# Altium integrated library IOT Arduino Board.IntLib: 54 symbols
Pins are listed as number, name and electrical type; pins without a type are passive.

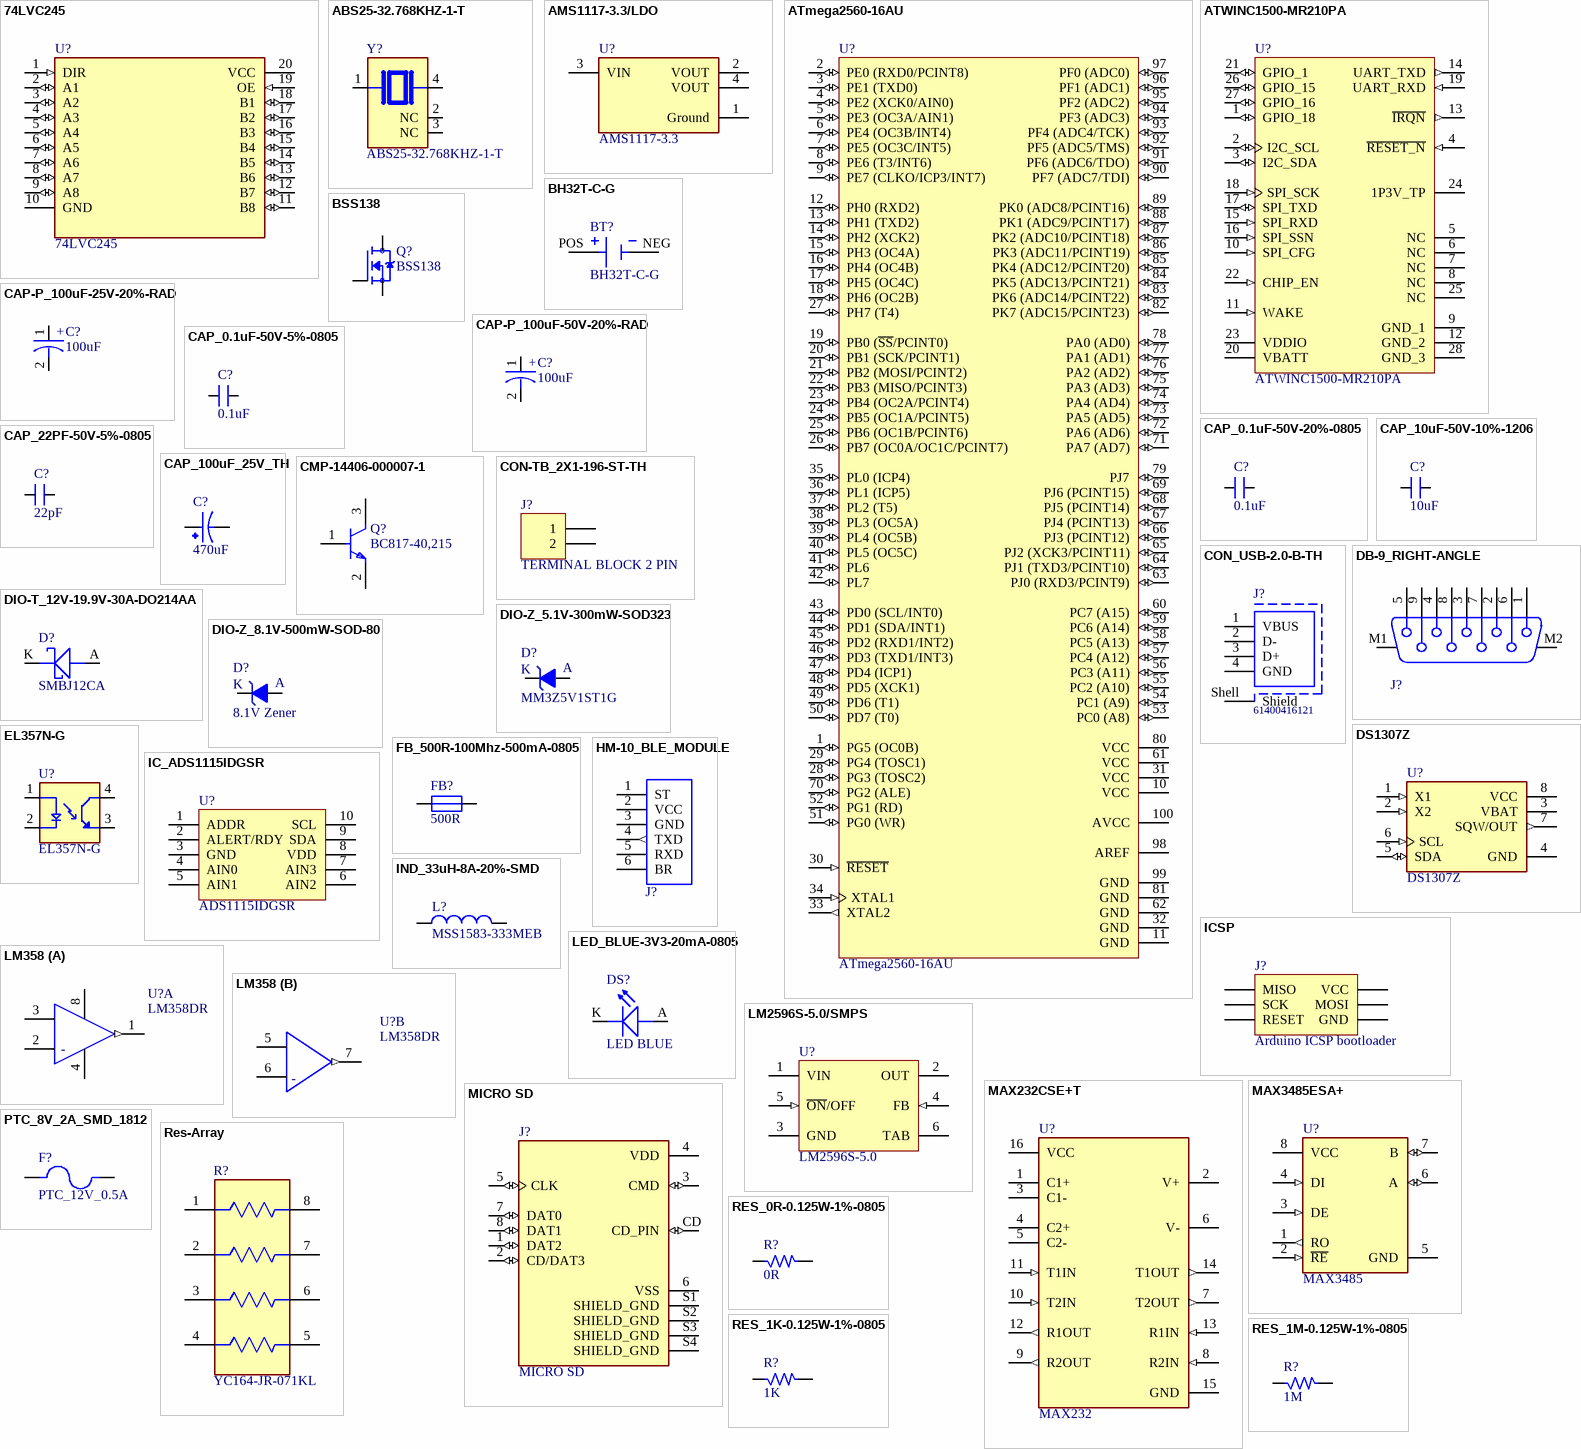
[diagram p0: symbols 74LVC245 to RES_1M-0.125W-1%-0805]

## 74LVC245
designator U?
Transceiver, Non-Inverting 1 Element 8 Bit per Element 3-State Output 20-TSSOP; MF: ON Semiconductor; Package: TSSOP-20 ON Semiconductor; Check_prices: https://www.snapeda.com/parts/74LVC245/Onsemi/view-part/?ref=eda; Value: *; Price: None; MP: 74LVC245; Availability: In Stock; SnapEDA_Link: https://www.snapeda.com/parts/74LVC245/Onsemi/view-part/?ref=snap
footprint SOIC-20-W
pins: 1 DIR (in), 2 A1 (io), 3 A2 (io), 4 A3 (io), 5 A4 (io), 6 A5 (io), 7 A6 (io), 8 A7 (io), 9 A8 (io), 10 GND (power), 11 B8 (io), 12 B7 (io), 13 B6 (io), 14 B5 (io), 15 B4 (io), 16 B3 (io), 17 B2 (io), 18 B1 (io), 19 OE (in), 20 VCC (power)

## ABS25-32.768KHZ-1-T
designator Y?
32.768 kHz Â±10ppm Crystal 12.5pF 50 kOhms 4-SOJ, 5.50mm pitch; MF: Abracon LLC; Price: None; Purchase-URL: https://pricing.snapeda.com/search/part/ABS25-32.768KHZ-1-T/?ref=eda; Package: 4-4 Abracon; Check_prices: https://www.snapeda.com/parts/ABS25-32.768KHZ-1-T/Abracon+LLC/view-part/?ref=eda; Value: *; MP: ABS25-32.768KHZ-1-T; Availability: In Stock; SnapEDA_Link: https://www.snapeda.com/parts/ABS25-32.768KHZ-1-T/Abracon+LLC/view-part/?ref=snap
footprint XTAL_ABS25-32.768KHZ-1-T
pins: 1, 2 NC, 3 NC, 4 2

## AMS1117-3.3/LDO
designator U?, comment AMS1117-3.3
LDO Voltage Regulators 1A, 3.3V; Manufacturer: Advanced Monolithic Systems; Dropout Voltage: 1.1V; Output Type: Fixed; Nominal Supply Current: 5mA; Max Power Dissipation: 1.2W; Max Supply Voltage: 15V; Number Of Outputs: 1; Standoff Height: 0.64mm; Max Junction Temp: +125°C; Height: 1.8mm; Package: AMS1117; Device Class L2: Power Management ICs; ComponentLink2Description: Datasheet; ComponentLink2URL: http://www.advanced-monolithic.com/pdf/ds1117.pdf; Category: IC; RoHS: TRUE; Automotive: No; Device Class L1: Integrated Circuits (ICs); Output Current: 1A; Device Class L3: Voltage Regulators - Linear; Temperature: -40°C to +125°C; Output Voltage: 3.3V; Manufacturer Part Number: AMS1117-3.3; Temperature Range Low: -40°C; Octopart: https://octopart.com/ams1117-3.3-advanced+monolithic+systems-25899300; Lead Free: Yes; Ipc Land Pattern Name: SOT229P700X180-4; Temperature Range High: +125°C; ClassName: PWR
footprint FP-AMS1117-IPC_A
footprint FP-AMS1117-IPC_B
footprint FP-AMS1117-IPC_C
pins: 1 Ground (power), 2 VOUT, 3 VIN (power), 4 VOUT

## ATmega2560-16AU
designator U?
8-bit AVR Microcontroller, 4.5-5.5V, 16MHz, 256KB Flash, 4KB EEPROM, 8KB SRAM, 86 GPIO pins, 100-pin TQFP, Industrial Grade (-40°C to 85°C), Pb-Free; PackageDescription: 100-Pin Thin Profile Plastic Quad Flat Pack (TQFP), 14 x 14 x 1.0 mm Body, 0.5 mm Pitch; ComponentLink1Description: Manufacturer URL; ComponentLink3URL: http://www.atmel.com/dyn/resources/prod_documents/2549S.pdf; RevisionNote: DatasheetVersion & PackageVersion updated. URLs added.; DatasheetVersion: revN, May-2011; ComponentLink2Description: ATmega640/1280/1281/2560/2561 Datasheet; PackageReference: 100A; PackageVersion: revD, Oct-2010; Code_JEDEC: MS-026-AED; ComponentLink1URL: http://www.atmel.com/; ComponentLink2URL: http://www.atmel.com/dyn/resources/prod_documents/doc2549.pdf; ComponentLink3Description: ATmega640/1280/1281/2560/2561 Summary
footprint 100A_M (Thin QFP, 100-Leads, Body 14x14mm, Pitch 0.5mm, IPC Low Density)
footprint 100A_N (Thin QFP, 100-Leads, Body 14x14mm, Pitch 0.5mm, IPC Medium Density)
footprint 100A_L (Thin QFP, 100-Leads, Body 14x14mm, Pitch 0.5mm, IPC High Density)
pins: 1 PG5 (OC0B) (io), 2 PE0 (RXD0/PCINT8) (io), 3 PE1 (TXD0) (io), 4 PE2 (XCK0/AIN0) (io), 5 PE3 (OC3A/AIN1) (io), 6 PE4 (OC3B/INT4) (io), 7 PE5 (OC3C/INT5) (io), 8 PE6 (T3/INT6) (io), 9 PE7 (CLKO/ICP3/INT7) (io), 10 VCC (power), 11 GND (power), 12 PH0 (RXD2) (io), 13 PH1 (TXD2) (io), 14 PH2 (XCK2) (io), 15 PH3 (OC4A) (io), 16 PH4 (OC4B) (io), 17 PH5 (OC4C) (io), 18 PH6 (OC2B) (io), 19 PB0 (~{SS}/PCINT0) (io), 20 PB1 (SCK/PCINT1) (io), 21 PB2 (MOSI/PCINT2) (io), 22 PB3 (MISO/PCINT3) (io), 23 PB4 (OC2A/PCINT4) (io), 24 PB5 (OC1A/PCINT5) (io), 25 PB6 (OC1B/PCINT6) (io), 26 PB7 (OC0A/OC1C/PCINT7) (io), 27 PH7 (T4) (io), 28 PG3 (TOSC2) (io), 29 PG4 (TOSC1) (io), 30 ~{RESET} (in), 31 VCC (power), 32 GND (power), 33 XTAL2 (out), 34 XTAL1 (in), 35 PL0 (ICP4) (io), 36 PL1 (ICP5) (io), 37 PL2 (T5) (io), 38 PL3 (OC5A) (io), 39 PL4 (OC5B) (io), 40 PL5 (OC5C) (io), 41 PL6 (io), 42 PL7 (io), 43 PD0 (SCL/INT0) (io), 44 PD1 (SDA/INT1) (io), 45 PD2 (RXD1/INT2) (io), 46 PD3 (TXD1/INT3) (io), 47 PD4 (ICP1) (io), 48 PD5 (XCK1) (io), 49 PD6 (T1) (io), 50 PD7 (T0) (io), 51 PG0 (WR) (io), 52 PG1 (RD) (io), 53 PC0 (A8) (io), 54 PC1 (A9) (io), 55 PC2 (A10) (io), 56 PC3 (A11) (io), 57 PC4 (A12) (io), 58 PC5 (A13) (io), 59 PC6 (A14) (io), 60 PC7 (A15) (io), 61 VCC (power), 62 GND (power), 63 PJ0 (RXD3/PCINT9) (io), 64 PJ1 (TXD3/PCINT10) (io), 65 PJ2 (XCK3/PCINT11) (io), 66 PJ3 (PCINT12) (io), 67 PJ4 (PCINT13) (io), 68 PJ5 (PCINT14) (io), 69 PJ6 (PCINT15) (io), 70 PG2 (ALE) (io), 71 PA7 (AD7) (io), 72 PA6 (AD6) (io), 73 PA5 (AD5) (io), 74 PA4 (AD4) (io), 75 PA3 (AD3) (io), 76 PA2 (AD2) (io), 77 PA1 (AD1) (io), 78 PA0 (AD0) (io), 79 PJ7 (io), 80 VCC (power), 81 GND (power), 82 PK7 (ADC15/PCINT23) (io), 83 PK6 (ADC14/PCINT22) (io), 84 PK5 (ADC13/PCINT21) (io), 85 PK4 (ADC12/PCINT20) (io), 86 PK3 (ADC11/PCINT19) (io), 87 PK2 (ADC10/PCINT18) (io), 88 PK1 (ADC9/PCINT17) (io), 89 PK0 (ADC8/PCINT16) (io), 90 PF7 (ADC7/TDI) (io), 91 PF6 (ADC6/TDO) (io), 92 PF5 (ADC5/TMS) (io), 93 PF4 (ADC4/TCK) (io), 94 PF3 (ADC3) (io), 95 PF2 (ADC2) (io), 96 PF1 (ADC1) (io), 97 PF0 (ADC0) (io), 98 AREF (power), 99 GND (power), 100 AVCC (power)

## ATWINC1500-MR210PA
designator U?
IEEE 802.11 b/g/n IoT Module, 2.4 GHz, 2.7 to 3.6 V, -40 to 85 degC, 28-Pin Module, RoHS, Tray; VDDIO Min: 2.7 V; Frequency: 2400000000 Hz; VDDIO Max: 3.6 V; Number of Channels: 1; ComponentLink3Description: Package Specification; DatasheetVersion: Rev. 42376C; ComponentLink1URL: http://www.atmel.com/; PackageDescription: 28-Pin Module, Body 21.72 x 14.73 mm, Pitch 1.016 mm; ComponentLink2URL: http://www.atmel.com/images/atmel-42376-smartconnect-winc1500-mr210pa_datasheet.pdf; Temperature Min: -40 degC; Packing: Tray; PartNumber: ATWINC1500-MR210PA; PackageVersion: Rev. 42376C, 03/2015; ComponentLink2Description: Datasheet; ComponentLink1Description: Manufacturer URL; RoHS: TRUE; Temperature Max: 85 degC; Generic Part Number: ATWINC1500; Mounting Technology: Surface Mount; ComponentLink3URL: http://www.atmel.com/images/atmel-42376-smartconnect-winc1500-mr210pa_datasheet.pdf
footprint ATML-ATWINC1500-MR210PA-28_V (Module, 28-Leads, Body 21.72x14.73mm, Pitch 1.016mm)
pins: 1 GPIO_18 (io) "General purpose I/O.", 2 I2C_SCL (io) "I2C Slave Clock. Currently used only for Atmel debug. Not for customer use. Leave unconnected.", 3 I2C_SDA (io) "I2C Slave Data. Currently used only for Atmel debug. Not for customer use. Leave unconnected.", 4 ~{RESET_N} (in) "Active-Low Hard Reset. When asserted to a low level, the module will be placed in a reset state. When asserted to a high level, the module will run normally. Connect to a host output that defaults low at power up. If the (See Datasheet)", 5 NC "No connect", 6 NC "No connect", 7 NC "No connect", 8 NC "No connect", 9 GND_1 (power) "GND", 10 SPI_CFG (in) "Tie to VDDIO through a 1Mohm resistor to enable the SPI interface.", 11 WAKE (in) "Host Wake control. Can be used to wake up the module from Doze mode. Connect to a host GPIO.", 12 GND_2 (power) "GND", 13 ~{IRQN} (out) "ATWINC1500-MR210PA Device Interrupt output. Connect to host interrupt input pin.", 14 UART_TXD (out) "UART Transmit Output from ATWINC1500-MR210P.", 15 SPI_RXD (in) "SPI MOSI (Master Out Slave In) pin.", 16 SPI_SSN (in) "SPI Slave Select. Active low.", 17 SPI_TXD (io) "SPI MISO (Master In Slave Out) pin.", 18 SPI_SCK (in) "SPI Clock.", 19 UART_RXD (in) "UART Receive input to ATWINC1500-MR210P.", 20 VBATT (power) "Battery power supply.", 21 GPIO_1 (io) "General Purpose I/O.", 22 CHIP_EN (in) "Module enable. High level enables module, low level places mod-ule in Power Down mode. Connect to a host Output that defaults low at power up. If the host output is tri-stated, add a 1Mohm pull-down resistor to ensure a low (See Datasheet)", 23 VDDIO (power) "I/O Power Supply. Must match host I/O voltage.", 24 1P3V_TP "1.3V VDD Core Test Point. Leave unconnected.", 25 NC "No connect", 26 GPIO_15 (io) "General purpose I/O.", 27 GPIO_16 (io) "General purpose I/O.", 28 GND_3 (power) "GND"

## BH32T-C-G
designator BT?
BATTERY HOLDER COIN 20MM PC PIN; MF: MPD; Value: *; Availability: Unavailable; SnapEDA_Link: https://www.snapeda.com/parts/BH32T-C-G/Memory%20Protection%20Devices/view-part/4219673/?ref=snap; Package: None; MP: BH32T-C-G; Price: None
footprint BAT_BH32T-C-G
pins: NEG, POS

## BSS138
designator Q?
N-Channel 50V 220mA (Ta) 360mW (Ta) Surface Mount SOT-23-3; Price: None; MP: BSS138; Value: *; Availability: Unavailable; Package: None
footprint SOT95P240X111-3N
pins: 1 G, 2 S, 3 D

## CAP-P_100uF-25V-20%-RAD
designator C?, comment 100uF
100µF 25V Aluminum Electrolytic Capacitors Radial, Can - SMD 1000 Hrs @ 105°C; Manufacturer: Nichicon; Manufacturer Part Number: UWT1E101MCL1GS; Alternate Part Number-1: NA; Case/Package: Radial-SMD; Supplier-1: SP ROAD; Supplier Part Number-1: UWT1E101MCL1GS; ClassName: PWR
footprint ACAP_P236_D305_H303_RAD (Aluminium Capacitor)
pins: 1, 2
text: +

## CAP-P_100uF-50V-20%-RAD
designator C?, comment 100uF
100µF 50V Aluminum Polymer Capacitor Radial, Can - SMD 28mOhm 4000 Hrs @ 125°C; Manufacturer: Nichicon; Manufacturer Part Number: GYA1H101MCQ1GS; Alternate Part Number-1: VEU101M1HTR-1010; Case/Package: Radial-SMD; Supplier-1: SP ROAD; Supplier Part Number-1: GYA1H101MCQ1GS; ClassName: PWR
footprint ACAP_P305_D393_H393_RAD (Aluminium Capacitor)
pins: 1, 2
text: +

## CAP_0.1uF-50V-5%-0805
designator C?, comment 0.1uF
0.1µF ±5% 50V Ceramic Capacitor X7R 0805 (2012 Metric); Manufacturer: AVX Corporation; Manufacturer Part Number: 08055C104JAT4A; Alternate Part Number-1: 0805B104M500; Case/Package: 0805; Supplier-1: SIRICOM; Supplier Part Number-1: 0805B104J500CT
footprint CAP_0805 (Ceramic Capacitor)
pins: 1, 2

## CAP_0.1uF-50V-20%-0805
designator C?, comment 0.1uF
0.1µF ±20% 50V Ceramic Capacitor X7R 0805 (2012 Metric); Manufacturer: Samsung Electro-Mechanics; Manufacturer Part Number: CL21B104MBCNNNC; Alternate Part Number-1: NA; Case/Package: 0805; Supplier-1: SIRICOM; Supplier Part Number-1: 0805B104K500CT; ClassName: PWR
footprint CAP_0805 (Ceramic Capacitor)
pins: 1, 2

## CAP_10uF-50V-10%-1206
designator C?, comment 10uF
10µF ±10% 50V Ceramic Capacitor X7R 1206 (3216 Metric); Manufacturer: KEMET; Manufacturer Part Number: CL31B106KBHNNNE; Alternate Part Number-1: GRT31CR61H106ME01L; Case/Package: 1206; Supplier-1: SIRICOM; Supplier Part Number-1: CC1206KKX5R9BB106
footprint CAP_1206 (Ceramic Capacitor)
pins: 1, 2

## CAP_22PF-50V-5%-0805
designator C?, comment 22pF
22pF ±5% 50V Ceramic Capacitor C0G, NP0 0805 (2012 Metric); Manufacturer: Yageo; Manufacturer Part Number: CC0805JRNPO9BN220; Alternate Part Number-1: 0805CG220J500NT; Case/Package: 0805; Supplier-1: SIRICOM; Supplier Part Number-1: 0805N220J500CT
footprint CAP_0805 (Ceramic Capacitor)
pins: 1, 2

## CAP_100uF_25V_TH
designator C?, comment 470uF
100F 25V Aluminum Electrolytic Capacitors Radial, Can 1000 Hrs @ 105C; MF: Panasonic; MP: EEU-FC1E101SB; Purchase-URL: https://pricing.snapeda.com/search/part/EEU-FC1E101SB/?ref=eda; Value: *; SnapEDA_Link: https://www.snapeda.com/parts/EEU-FC1E101SB/Panasonic/view-part/?ref=snap; Price: None; Package: RADIAL-2 Panasonic; Check_prices: https://www.snapeda.com/parts/EEU-FC1E101SB/Panasonic/view-part/?ref=eda; Availability: In Stock; ClassName: PWR
footprint CAPPRD500W50D630H1120
pins: N, P

## CMP-14406-000007-1
designator Q?, comment BC817-40,215
TRANS NPN 45V 0.5A SOT23; Manufacturer: Nexperia; Collector Emitter Saturation Voltage: 700mV; Power Dissipation: 250mW; Collector Base Voltage: 50V; Unity Gain Freq: 100MHz; Hfe Max: 600; Rthja Max: 500K/W; Emitter Base Voltage: 5V; Max Collector Current: 500mA; Hfe Testvce: 1V; Automotive Grade: Grade 0; Hfe Min: 250; Max Junction Temp: +150°C; Number Of Npn: 1; Hfe Testic: 100mA; Octopart: https://octopart.com/bc817-40%2C215-nexperia-78739081; Lead Free: Yes; Ipc Land Pattern Name: SOT95P230X100-3; Manufacturer Part Number: BC817-40,215; RoHS: TRUE; Collector Emitter Breakdown Voltage: 45V; Digikey Description: TRANS NPN 45V 0.5A SOT23; ComponentLink2URL: https://assets.nexperia.com/documents/data-sheet/BC817_SER.pdf; Temperature Range High: +150°C; Mouser Description: BC817 Series 45 V 500 mA 250 mW SMT NPN General-Purpose Transistor - SOT-23-; Device Class L3: BJTs; Temperature: to +150°C; Height: 1.1mm; Automotive: Yes; Ambient Temperature Range Low: -65°C; Package: SOT23; Collector Emitter Voltage: 45V; Category: Trans; ComponentLink2Description: Datasheet; Device Class L2: Transistors; Ambient Temperature Range High: +150°C; Number Of Elements: 1; Device Class L1: Discrete Semiconductors; Footprint Url: https://assets.nexperia.com/documents/outline-drawing/SOT23.pdf
footprint FP-SOT23-IPC_A
footprint FP-SOT23-IPC_B
footprint FP-SOT23-MFG
footprint FP-SOT23-IPC_C
pins: 1 B, 2 E, 3 C

## CON-TB_2X1-196-ST-TH
designator J?, comment TERMINAL BLOCK 2 PIN
2 Pins, 1 Row 5mm Pitch, straight Connector, male; Manufacturer: Phoenix Contact; Manufacturer Part Number: MKDSN1,5/2; Alternate Part Number-1: NA; Case/Package: TH-CON; Supplier-1: SP ROAD; Supplier Part Number-1: MKDSN1,5/2; ClassName: PWR
footprint CON2_P196_1729128_TH_ST (Terminal Block)
pins: 1, 2

## CON_USB-2.0-B-TH
designator J?, comment 61400416121
USB 2.0 Type B Receptacle WR-COM, Horizontal, THT, with Pads and Pegs; Manufacturer: Wurth Elektronik; Contact Resistance: 20mOhm; Rated Current: 1.5A; Working Voltage: 30VAC; Package Reference: 61400416121; Part Number: 61400416121; Packaging: Tray; Mounting Technology: THT; Gender: Receptacle; Datasheet URL: https://katalog.we-online.de/em/datasheet/61400416121.pdf; Publisher: WurthElektronik; Orientation: Horizontal; Connector Type: USB2.0TypeB; Operating Temperature: -40to105degC; Manufacturer URL: http://www.we-online.de
footprint 61400416121 (USB 2.0 Type B Horizontal)
pins: 1 VBUS, 2 D-, 3 D+, 4 GND, Shell Shield

## DB-9_RIGHT-ANGLE
designator J?, comment 618009231121  (value not drawn)
Female PCB Connector with Hex Screw WR-DSUB, 8.08 mm, Angled, 9 pins; Manufacturer: Wurth Elektronik; Contact Resistance: 30mOhm; Pin Number: 9; Working Voltage: 125VAC; Rated Current: 3A; Gender: Female; Datasheet URL: https://katalog.we-online.de/em/datasheet/6180xx231121.pdf; Packaging: Tray; Package Reference: 618009231121; Operating Temperature: -40to85degC; Manufacturer URL: http://www.we-online.de; Publisher: WurthElektronik; Mounting Technology: THT; Part Number: 618009231121; Orientation: Angled
footprint 618009231121 (9 pins, right angled, 8.08mm, with hex screw)
pins: 1, 2, 3, 4, 5, 6, 7, 8, 9, M1, M2

## DIO-T_12V-19.9V-30A-DO214AA
designator D?, comment SMBJ12CA
19.9V Clamp 30.2A Ipp Tvs Diode Surface Mount DO-214AA (SMBJ); Manufacturer: Texas Instruments; Alternate Part Number-1: SMBJ12CA-H; Manufacturer Part Number: SMBJ12CA; Case/Package: DO214AA; Supplier-1: SIRICOM; Supplier Part Number-1: SMBJ12CA; ClassName: PWR
footprint DIO_SMB_DO-214AA (Diode)
pins: A, K

## DIO-Z_5.1V-300mW-SOD323
designator D?, comment MM3Z5V1ST1G
Zener Diode 5.1V 300mW ±2% Surface Mount SOD-323; Manufacturer: Vishay Semiconductors; Alternate Part Number-1: NA; Manufacturer Part Number: MM3Z5V1ST1G; Case/Package: SOD323; Supplier-1: SIRICOM; Supplier Part Number-1: BZT52C5V1S
footprint DIO_SOD-323F (Diode)
pins: A, K

## DIO-Z_8.1V-500mW-SOD-80
designator D?, comment 8.1V Zener
Zener Diode 8.2V 500mW Surface Mount SOD-80 MiniMELF; Manufacturer: Microsemi; Manufacturer Part Number: TZMA8V2-GS08; Alternate Part Number-1: NA; Case/Package: SOD-80; Supplier-1: SIRICOM; Supplier Part Number-1: BZV55-C8V2; ClassName: PWR
footprint DIO_SOD80C (Voltage regulator diodes)
pins: A, K

## DS1307Z
designator U?
Real Time Clock _RTC_ IC Clock/Calendar 56B IÂ²C, 2-Wire Serial 8-SOIC _0.154, 3.90mm Width_; MF: Maxim Integrated; Availability: Unavailable; Price: None; Package: SO-8 Maxim Integrated; Value: *; SnapEDA_Link: https://www.snapeda.com/parts/DS1307Z/Maxim%20Integrated/view-part/524266/?ref=snap; MP: DS1307Z
footprint SOIC127P600X175-8N
pins: 1 X1 (in), 2 X2 (in), 3 VBAT (power), 4 GND (power), 5 SDA (io), 6 SCL (in), 7 SQW/OUT (out), 8 VCC (power)

## EL357N-G
designator U?
PHOTOTRANSISTOR PHOTOCOUPLER; Package: None; Price: None; Availability: Unavailable; MP: EL357N-G; Value: *
footprint OPTO_EL357N-G
pins: 1 A, 2 C, 3 ET, 4 CT

## FB_500R-100Mhz-500mA-0805
designator FB?, comment 500R
500 Ohms @ 100MHz 1 Ferrite Bead 0805 (2012 Metric) 500mA 300mOhm; Manufacturer: Abracon; Manufacturer Part Number: ACML-0805-501-T; Alternate Part Number-1: NA; Case/Package: 0805; Supplier-1: SIRICOM; Supplier Part Number-1: ACMS201209A601 2A; ClassName: PWR
footprint IND_0805 (Ferrite Bead)
pins: 1, 2

## HM-10_BLE_MODULE
designator J?, comment 61300611821  (value not drawn)
WR-PHD Socket Header, THT, Vertical, pitch 2.54mm, 1 Row, 6P; Manufacturer: Wurth Elektronik; Contact Resistance: 20mΩ; Rated Current: 3A; Working Voltage: 250V; Withstanding Voltage: 500V; ComponentLink1Description: Website Link; ComponentLink1URL: https://www.we-online.com/redexpert/article/61300611821?ad; ComponentLink2Description: Datasheet Link; ComponentLink2URL: https://www.we-online.com/redexpert/spec/61300611821?ad; Manufacturer Part Number: 61300611821; Category: Board-to-Board Connectors; Match Code: WR-PHD; Mount: Through Hole; Operating Temperature Max: 125°C; Operating Temperature Min: -40°C; Packaging: Tray; Gender: Socket Header; Number of Pins: 6; Number of Rows: 1; Orientation: Vertical; Pitch: 2.54mm
footprint HM-10_BLE_MODULE (Socket Header, Pitch 2.54 mm, THT, Vertical, single row, 6p)
pins: 1 ST, 2 VCC, 3 GND, 4 TXD (out), 5 RXD, 6 BR

## IC_ADS1115IDGSR
designator U?, comment ADS1115IDGSR
Analog to Digital Converters - ADC 16B ADC w/ Int MUX PGA Comp Osc & Ref; Manufacturer: Texas Instruments; Alternate Part Number-1: NA; Manufacturer Part Number: ADS1115IDGSR; Case/Package: MSOP-10; Supplier-1: Mouser; Supplier Part Number-1: 595-ADS1115IDGSR
footprint VSOP-10_19.6_230_57X12_SMD (VSOP Package)
pins: 1 ADDR, 2 ALERT/RDY, 3 GND, 4 AIN0, 5 AIN1, 6 AIN2, 7 AIN3, 8 VDD, 9 SDA, 10 SCL

## ICSP
designator J?, comment Arduino ICSP bootloader
Header, 3-Pin, Dual row; LatestRevisionDate: 17-Jul-2002; LatestRevisionNote: Re-released for DXP Platform.; Publisher: Altium Limited
footprint HDR2X3 (Connector; Header; 3x2 Position)
signal-integrity model Connector
pins: 1 MISO, 2 VCC, 3 SCK, 4 MOSI, 5 RESET, 6 GND

## IND_33uH-8A-20%-SMD
designator L?, comment MSS1583-333MEB
Fixed Inductors MSS1583 SMT Power 0.038Ohms 33uH; Manufacturer: Coilcraft; Alternate Part Number-1: NA; Manufacturer Part Number: MSS1583-333MEB; Case/Package: SMD; Supplier-1: COILCRAFT SAMPLE; Supplier Part Number-1: MSS1583-333MEB; ClassName: PWR
footprint IND_456_640_236X117_SMD (SMD Inductor on Sunrom)
pins: 1, 2

## LED_BLUE-3V3-20mA-0805
designator DS?, comment LED BLUE
Blue 470nm LED Indication - Discrete 3.3V 0805 (2012 Metric); Manufacturer: Vishay Lite-On; Manufacturer Part Number: LTST-C171TBKT; Alternate Part Number-1: NA; Case/Package: 0805; Supplier-1: SP ROAD; Supplier Part Number-1: LTST-C171TBKT; ClassName: PWR
footprint LED_0805
pins: A ANODE, K CATHODE

## LM358
designator U?, comment LM358DR
IC OPAMP GP 2 CIRCUIT 8SOIC; Output Current: 30mA; Min Dual Supply Voltage: 1.5V; Input Offset Voltage (Vos): 7mV; Power Supply Rejection Ratio (PSRR): 65dB; Unity Gain Bandwidth Product: 700kHz; Number of Channels: 2; Min Supply Voltage: 3V; Max Dual Supply Voltage: 16V; Dual Supply Voltage: 9V; Max Supply Voltage: 32V; Nominal Supply Current: 1.2mA; Slew Rate: 0.3V/µs; Input Bias Current: 250nA; Voltage Gain: 100dB; Operating Supply Current: 1mA; REACH SVHC: No SVHC; Package Quantity: 2500; Width: 3.91mm; Max Operating Temperature: 70°C; Min Operating Temperature: 0°C; Mount: Surface Mount; Length: 4.9mm; Radiation Hardening: No; Case/Package: SOIC; Lead Free: Lead Free; Number of Elements: 2; Packaging: Tape and Reel; Output Current per Channel: 30mA; Number of Circuits: 2; Bandwidth: 700kHz; Operating Supply Voltage: 16V; Gain Bandwidth Product: 700kHz; Number of Pins: 8; Number of Amplifiers: 2; Height: 1.58mm; Common Mode Rejection Ratio: 65dB; Contact Plating: Gold
footprint FP-D0008A-IPC_B
footprint FP-D0008A-IPC_A
footprint FP-D0008A-IPC_C
footprint FP-D0008A-MFG
part A pins: 1 1OUT (out), 2 IN1- (hiz), 3 IN1+ (hiz), 4 V- (power), 8 V+ (power)
part B pins: 5 IN2+ (hiz), 6 IN2- (hiz), 7 2OUT (out)
part A text: -
part B text: -

## LM2596S-5.0/SMPS
designator U?, comment LM2596S-5.0
SIMPLE SWITCHER® Power Converter 150 KHz 3A Step-Down Voltage Regulator, 5-pin TO-263, Pb-Free; Manufacturer: Texas Instruments; PowerWise: N; PackageTopMarking: NSUZXYTTE#*LM2596S*-5.0 P+; ComponentLink1URL: http://www.ti.com/general/docs/lit/getliterature.tsp?genericPartNumber=LM2596&fileType=pdf; PackageDescription: TO-263, Molded, .400 x .390 x .180in, 5 Lead, .067in Pitch, Surface Mount; RoHS: Y; PinCount: 5; Code_JEDEC: MO-169-AB; ComponentLink1Description: Datasheet URL; PackageReference: KTT0005B; CompType: Switcher; ClassName: PWR
footprint TO170P1524X483-6N
pins: 1 VIN (power), 2 OUT (power), 3 GND (power), 4 FB (in), 5 ~{ON}/OFF (in), 6 TAB (power)

## MAX232CSE+T
designator U?, comment MAX232
IC RS-232 DRVR/RCVR 16-SOIC; Manufacturer: Maxim Integrated; Manufacturer Part Number: MAX232CSE+T; Number Of Receivers: 2; Max Supply Voltage: 5.5V; Nominal Supply Current: 5mA; Simplex Duplex: Full Duplex; Min Supply Voltage: 4.5V; Data Rate: 120kbits/s; Standoff Height: 0.1mm; Device Class L1: Integrated Circuits (ICs); Device Class L2: Interface ICs; Package: S16-3; Temperature Range High: +70°C; ComponentLink2Description: Datasheet; Temperature: 0°C to +70°C; Octopart: https://octopart.com/max232cse%2Bt-maxim+integrated-39993384; ComponentLink2URL: https://datasheets.maximintegrated.com/en/ds/MAX220-MAX249.pdf; Automotive: No; Device Class L3: RS-232 / RS-422 / RS-485 Interface ICs; Height: 1.75mm; Number Of Transmitters: 2; Digikey Description: IC RS-232 DRVR/RCVR 16-SOIC; Footprint Url: https://pdfserv.maximintegrated.com/land_patterns/90-0097.PDF; Temperature Range Low: 0°C; Mouser Description: RS-232 Interface IC 5V MultiCh RS-232 Driver/Receiver; Interface: RS-232; RoHS: TRUE; Lead Free: Yes; Category: IC
footprint FP-S16-3-IPC_A
footprint FP-S16-3-IPC_C
footprint FP-S16-3-IPC_B
footprint FP-S16-3-MFG
pins: 1 C1+, 2 V+, 3 C1-, 4 C2+, 5 C2-, 6 V-, 7 T2OUT (out), 8 R2IN (in), 9 R2OUT (out), 10 T2IN (in), 11 T1IN (in), 12 R1OUT (out), 13 R1IN (in), 14 T1OUT (out), 15 GND (power), 16 VCC (power)

## MAX3485ESA+
designator U?, comment MAX3485
IC TXRX RS485/422 10MBPS 8SOIC; Manufacturer: Maxim Integrated; Manufacturer Part Number: MAX3485ESA+; Nominal Supply Current: 0.95-1.1mA; Data Rate: 10Mbits/s; Min Supply Voltage: 3V; Interface: RS-485,RS-422; Number Of Transmitters: 1; Max Supply Voltage: 3.6V; Max Junction Temp: +160°C; Standoff Height: 0.1mm; Simplex Duplex: Half Duplex; Height: 1.75mm; Temperature Range High: +85°C; Device Class L2: Interface ICs; Digikey Description: IC TXRX RS485/422 10MBPS 8SOIC; Temperature: -40°C to +85°C; Device Class L3: RS-232 / RS-422 / RS-485 Interface ICs; Temperature Range Low: -40°C; Footprint Url: https://pdfserv.maximintegrated.com/land_patterns/90-0096.PDF; Category: IC; ComponentLink2URL: https://datasheets.maximintegrated.com/en/ds/MAX3483-MAX3491.pdf; Package: S8-5; Octopart: https://octopart.com/max3485esa%2B-maxim+integrated-39731860; RoHS: TRUE; Lead Free: Yes; ComponentLink2Description: Datasheet; Device Class L1: Integrated Circuits (ICs); Mouser Description: 3.3V Powered, 10Mbps and Slew-Rate Limited, True RS-485/RS-422 Transceivers; Number Of Receivers: 1; Automotive: No; ClassName: RS485
footprint FP-S8-5-IPC_C
footprint FP-S8-5-IPC_B
footprint FP-S8-5-IPC_A
footprint FP-S8-5-MFG
pins: 1 RO (out), 2 ~{RE} (in), 3 DE (in), 4 DI (in), 5 GND (power), 6 A (io), 7 B (io), 8 VCC (power)

## MICRO SD
designator J?
GTFP08131Y2HR; Availability: Unavailable; Price: None; MP: GTFP08131Y2HR; Package: None; Value: *
footprint AMPHENOL_GTFP08131Y2HR
pins: 1 DAT2 (io), 2 CD/DAT3 (io), 3 CMD (io), 4 VDD (power), 5 CLK (io), 6 VSS (power), 7 DAT0 (io), 8 DAT1 (io), CD CD_PIN (io), S1 SHIELD_GND (power), S2 SHIELD_GND (power), S3 SHIELD_GND (power), S4 SHIELD_GND (power)

## PTC_8V_2A_SMD_1812
designator F?, comment PTC_12V_0.5A
MF-MSMF200_Polymeric PTC Resettable Fuse 8V 2A Ih Surface Mount 1812 (4532 Metric), Concave; MF: Bourns; Value: *; SnapEDA_Link: https://www.snapeda.com/parts/MF-MSMF200/Bourns/view-part/4874733/?ref=snap; MP: MF-MSMF200; Check_prices: https://www.snapeda.com/parts/MF-MSMF200/Bourns/view-part/4874733/?ref=eda; Availability: Unavailable; Price: None; Package: None; ClassName: PWR
footprint FUSER_MF-MSMF200
pins: 1, 2

## Res-Array
designator R?, comment YC164-JR-071KL
RES ARRAY 4 RES 1K OHM 1206; Number of Terminals/Pins: 8; Resistance Tolerance: 5%; Temperature Coefficient: 200ppm/°C; Number of Circuits: 4; Resistance: 1kR; Power Per Element: 62.5mW; Voltage Rating: 50V; Circuit Type: Isolated; Case/Package: 0603; RoHS Compliant: Yes; Size Code: 0603; Tolerance: 5%; Min Operating Temperature: -55°C; Height: 0.028inch; Series: YC164; Number of Elements: 4; Length: 0.126inch; Number of Pins: 8; Number of Resistors: 4; Lead Free: Lead Free; Radiation Hardening: No; Max Operating Temperature: 155°C; Case Code (Metric): 3216; Working Voltage: 50V; Case Code (Imperial): 1206; Packaging: Cut Tape; Technology: THICK FILM; Number of Contacts: 8; Width: 0.063inch; Depth: 1.6mm; Terminal Pitch: 0.8mm; Power Dissipation: 62.5mW; Package Quantity: 1; Termination: Convex; Mount: Surface Mount; Military Standard: Not
footprint FP-YC164-MFG
pins: 1, 2, 3, 4, 5, 6, 7, 8

## RES_0R-0.125W-1%-0805
designator R?, comment 0R
0 Ohms Jumper 0.125W, 1/8W Chip Resistor 0805 (2012 Metric) Automotive AEC-Q200 Thick Film; Manufacturer: Walsin; Manufacturer Part Number: WR08X000PTL; Case/Package: 0805; Supplier-1: SIRICOM; Supplier Part Number-1: WR08X000PTL; Alternate Part Number-1: WR08X000PTL
footprint RES_0805 (Resister)
pins: 1, 2

## RES_1K-0.125W-1%-0805
designator R?, comment 1K
1 kOhms ±1% 0.125W, 1/8W Chip Resistor 0805 (2012 Metric) Moisture Resistant Thick Film; Manufacturer: Walsin; Manufacturer Part Number: WR08X1001FTL; Case/Package: 0805; Supplier-1: SP ROAD; Supplier Part Number-1: RC0805JR-071KL; Alternate Part Number-1: WR08X1001FTL; ClassName: PWR
footprint RES_0805
pins: 1, 2

## RES_1M-0.125W-1%-0805
designator R?, comment 1M
1 MOhms ±1% 0.125W, 1/8W Chip Resistor 0805 (2012 Metric) Automotive AEC-Q200 Thick Film; Manufacturer: Walsin; Manufacturer Part Number: WR08X1004FTL; Alternate Part Number-1: 0805W8F1004T5E; Case/Package: 0805; Supplier-1: SIRICOM; Supplier Part Number-1: WR08X1004FTL
footprint RES_0805
pins: 1, 2

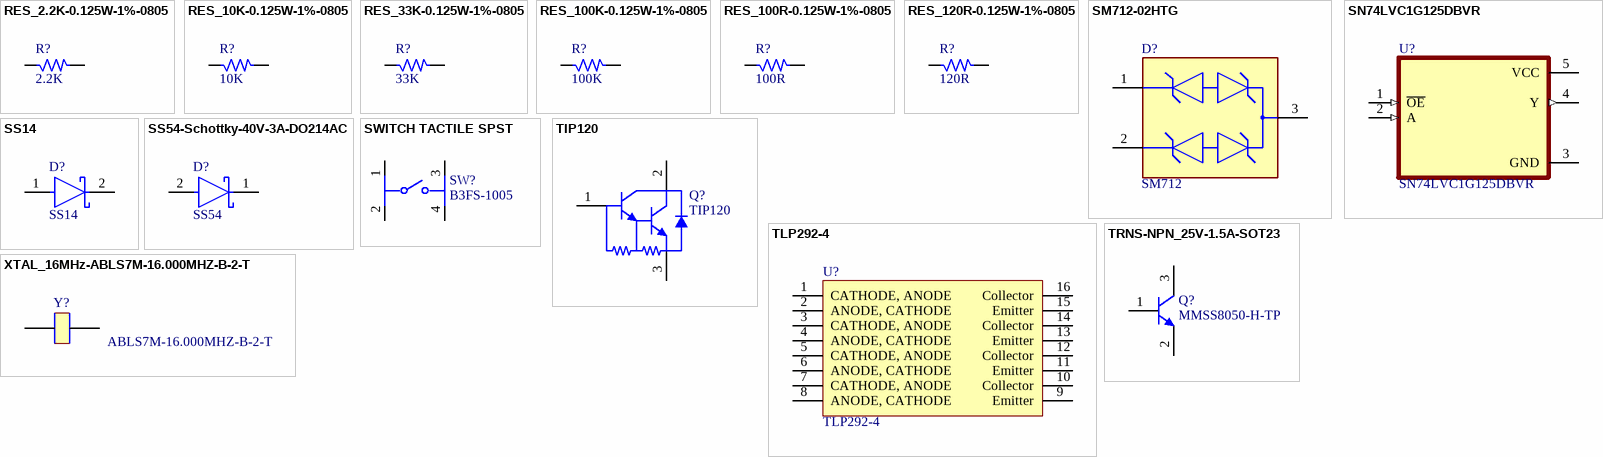
[diagram p1: symbols RES_2.2K-0.125W-1%-0805 to XTAL_16MHz-ABLS7M-16.000MHZ-B-2-T]

## RES_2.2K-0.125W-1%-0805
designator R?, comment 2.2K
2.2 kOhms ±1% 0.125W, 1/8W Chip Resistor 0805 (2012 Metric) Thick Film; Manufacturer: Stackpole Electronics; Manufacturer Part Number: CRG0805F2K2; Alternate Part Number-1: CR0805F82201G; Case/Package: 0805; Supplier-1: SIRICOM; Supplier Part Number-1: WR08X2201FTL
footprint RES_0805
pins: 1, 2

## RES_10K-0.125W-1%-0805
designator R?, comment 10K
10 kOhms ±1% 0.125W, 1/8W Chip Resistor 0805 (2012 Metric) Automotive AEC-Q200 Thick Film; Manufacturer: CTS; Manufacturer Part Number: WR08X1002FTL; Case/Package: 0805; Supplier-1: SIRICOM; Supplier Part Number-1: WR08X1002FTL; Alternate Part Number-1: WR08X1002FTL
footprint RES_0805
pins: 1, 2

## RES_33K-0.125W-1%-0805
designator R?, comment 33K
Thick Film Resistors - SMD 33KOhms 1/8W 150V33 kOhms ±1% 0.125W, 1/8W Chip Resistor 0805 (2012 Metric) Thick Film; Manufacturer: Vishay BCcomponents; Manufacturer Part Number: CRG0805F33K; Alternate Part Number-1: NA; Case/Package: 0805; Supplier-1: SIRICOM; Supplier Part Number-1: WR08X3302FTL
footprint RES_0805
pins: 1, 2

## RES_100K-0.125W-1%-0805
designator R?, comment 100K
100 kOhms ±1% 0.125W, 1/8W Chip Resistor 0805 (2012 Metric) Automotive AEC-Q200 Thick Film; Manufacturer: Walsin; Manufacturer Part Number: WR08X1003FTL; Alternate Part Number-1: NA; Case/Package: 0805; Supplier-1: SIRICOM; Supplier Part Number-1: WR08X1003FTL
footprint RES_0805
pins: 1, 2

## RES_100R-0.125W-1%-0805
designator R?, comment 100R
100 Ohms ±1% 0.125W, 1/8W Chip Resistor 0805 (2012 Metric) Automotive AEC-Q200, Pulse Withstanding Thick Film; Manufacturer: Walsin; Manufacturer Part Number: WR08X1000FTL; Case/Package: 0805; Supplier-1: SIRICOM; Supplier Part Number-1: WR08X1000FTL; Alternate Part Number-1: WR08X1000FTL
footprint RES_0805
pins: 1, 2

## RES_120R-0.125W-1%-0805
designator R?, comment 120R
120 Ohms ±1% 0.125W, 1/8W Chip Resistor 0805 (2012 Metric) Automotive AEC-Q200, Moisture Resistant Thick Film; Manufacturer: Stackpole Electronics; Manufacturer Part Number: CRGCQ0805F120R; Alternate Part Number-1: NA; Case/Package: 0805; Supplier-1: SIRICOM; Supplier Part Number-1: WR08X1200FTL; ClassName: RS485
footprint RES_0805 (Resister)
pins: 1, 2

## SM712-02HTG
designator D?, comment SM712
TVS DIODE 12V 31V SOT23-3; Leakage Current: 20uA; Polarity: Bidirectional; Breakdown Voltage: 13.3V; Max Power Dissipation: 600W; Number of Channels: 2; Max Surge Current: 19A; Capacitance: 75pF; Power Line Protection: No; Element Configuration: Dual; Number of Pins: 3; Radiation Hardening: No; Clamping Voltage: 31V; Mount: Surface Mount; Reverse Standoff Voltage: 12V; Peak Pulse Power: 600W; Lead Free: Lead Free; Direction: Bidirectional; Packaging: Tape and Reel; Case/Package: SOT-23-3; Number of Bidirectional Channels: 2; Termination: SMD/SMT; Max Operating Temperature: 125°C; Min Breakdown Voltage: 13.3V; Depth: 1.4mm; Package Quantity: 3000; Working Voltage: 12V; Length: 3.04mm; Peak Pulse Current: 19A; Composition: Zener; Min Operating Temperature: -40°C; ClassName: RS485
footprint FP-SM712-MFG
pins: 1, 2, 3

## SN74LVC1G125DBVR
designator U?
Single Bus Buffer Gate With 3-State Outputs 5-SOT-23 -40 to 125; MF: Texas Instruments; Purchase-URL: https://pricing.snapeda.com/search/part/SN74LVC1G125DBVR/?ref=eda; Package: SOT-23-5 Texas Instruments; MP: SN74LVC1G125DBVR; Price: None; Availability: Good; Value: *; Check_prices: https://www.snapeda.com/parts/SN74LVC1G125DBVR/Texas%20Instruments/view-part/249684/?ref=eda; SnapEDA_Link: https://www.snapeda.com/parts/SN74LVC1G125DBVR/Texas%20Instruments/view-part/249684/?ref=snap
footprint SOT95P280X145-5N
pins: 1 ~{OE} (in), 2 A (in), 3 GND (power), 4 Y (out), 5 VCC (power)

## SS14
designator D?
DIODE SCHOTTKY 40V 1A SMA; Manufacturer: ON Semiconductor; Peak Reverse Current: 0.2mA; Max Junction Temp: +125°C; Standoff Height: 0.05mm; Max Surge Forward Current: 40A; Mouser Description: Schottky Diodes & Rectifiers SMA 40V 1.0A; RoHS: TRUE; Lead Free: Yes; Manufacturer Part Number: SS14; Device Class L3: Schottky Diodes; Category: Diode; Automotive: No; Digikey Description: DIODE SCHOTTKY 40V 1A SMA; ComponentLink2Description: Datasheet; Device Class L2: Diodes; Height: 2.5mm; Temperature Range High: +125°C; ComponentLink2URL: https://www.onsemi.com/pub/Collateral/SS19-D.PDF; Device Class L1: Discrete Semiconductors; Package: 403AE; Octopart: https://octopart.com/ss14-on+semiconductor-29205033; Max Repetitive Reverse Voltage: 40V; Temperature Range Low: -65°C; Forward Current: 1A; Temperature: -65°C to +125°C
footprint FP-403AE-MFG
pins: 1 A, 2 C

## SS54-Schottky-40V-3A-DO214AC
designator D?, comment SS54
DIODE SCHOTTKY 40V 5A DO214AC; Element Configuration: Single; Max Reverse Leakage Current: 200uA; Polarity: Standard; Peak Non-Repetitive Surge Current: 100A; Max Reverse Current: 0.1mA; Forward Voltage: 550mV; Max Forward Surge Current (Ifsm): 75A; Radiation Hardening: No; Current Rating: 5A; Contact Plating: Tin; Output Current: 5A; Height: 2.087mm; Mount: Surface Mount; Case/Package: SMA; Packaging: Tape and Reel; Width: 2.79mm; Average Rectified Current: 5A; Max Repetitive Reverse Voltage (Vrrm): 40V; Max Operating Temperature: 150°C; Length: 4.5mm; RoHS Compliant: Yes; Voltage Rating (DC): 40V; Min Operating Temperature: -65°C; Max Reverse Voltage (DC): 40V; Number of Pins: 2; Lead Free: Lead Free; Forward Current: 5A; Max Surge Current: 100A; Package Quantity: 1; ClassName: PWR
footprint FP-95400-MFG
pins: 1 C, 2 A

## SWITCH TACTILE SPST
designator SW?, comment B3FS-1005
SWITCH TACTILE SPST-NO 0.05A 24V; Operating Force: 2.55N; Ratings: IP00; Illumination Type: Non-Illuminated; Switch Travel: 0.25mm; Electrical Life: 100000Cycles; Current Rating: 50mA; Mechanical Life: 300000Cycles; Switch Function: Off-Mom; Actuator Type: Standard; Throw Configuration: SPST; Number of Poles: 1; Actuator Length: 0.5mm; RoHS Compliant: Yes; Packaging: Bulk; Termination: Gull Wing; Max Operating Temperature: 70°C; Weight: 0.2g; Min Operating Temperature: -25°C; Contact Material: Silver; Length: 6mm; Height: 3.1mm; Mount: Surface Mount; Contact Current Rating: 50mA; Lead Free: Lead Free; Max Voltage Rating (DC): 24V; Orientation: Straight; Package Quantity: 100; Voltage Rating (DC): 24V; Series: B3FS; Width: 6mm
footprint FP-B3FS-1005-MFG
pins: 1, 2, 3, 4

## TIP120
designator Q?
Plastic Medium-Power, Complementary Silicon Transistor, 3-Pin TO-220, Tube; Manufacturer: On Semiconductor; IC Continuous (A): 5; Polarity: NPN; ComponentLink2URL: http://www.onsemi.cn/pub_link/Collateral/TIP120-D.PDF; Packing: Tube; PartNumber: TIP120; ComponentLink3Description: Package Specification; PackageDescription: 3-Pin Flange Mount, Vertical Straight Lead, Body 9.97 x 4.445 mm, Pitch 2.54 mm; Mounting Technology: Through Hole; ComponentLink1URL: http://www.onsemi.com/; PackageVersion: Rev. AG, 09/2011; ComponentLink1Description: Manufacturer URL; PackageReference: TO-220-3-221A-09; ComponentLink2Description: Datasheet; RoHS: FALSE; DatasheetVersion: Rev. 8; ComponentLink3URL: http://www.onsemi.com/pub_link/Collateral/221A-09.PDF
footprint ONSC-TO-220-3-221A-09 (FM, 3-Leads, Body 10.3x4.85mm, Pitch 2.54mm)
pins: 1 B, 2 C, 3 E

## TLP292-4
designator U?
Optoisolator Transistor Output 3750Vrms 4 Channel 16-SO; Manufacturer: Olimex; Manufacturer Part Number: CH340C; Alternate Part Number-1: NA; Case/Package: SOIC16; Supplier-1: LCSC; Supplier Part Number-1: C84681
footprint SOIC16_50_284_25X90_SMT
pins: 1 CATHODE, ANODE, 2 ANODE, CATHODE, 3 CATHODE, ANODE, 4 ANODE, CATHODE, 5 CATHODE, ANODE, 6 ANODE, CATHODE, 7 CATHODE, ANODE, 8 ANODE, CATHODE, 9 Emitter, 10 Collector, 11 Emitter, 12 Collector, 13 Emitter, 14 Collector, 15 Emitter, 16 Collector

## TRNS-NPN_25V-1.5A-SOT23
designator Q?, comment MMSS8050-H-TP
Bipolar (BJT) Transistor NPN 25V 1.5A 100MHz 625mW Surface Mount SOT-23; Manufacturer: MCC; Alternate Part Number-1: NA; Manufacturer Part Number: MMSS8050-H-TP; Case/Package: SOT-23; Supplier-1: MOUSER; Supplier Part Number-1: MMSS8050-H-TP; ClassName: PWR
footprint SOT 23-3 (Case: SOT23)
pins: 1 B, 2 E, 3 C

## XTAL_16MHz-ABLS7M-16.000MHZ-B-2-T
designator Y?, comment ABLS7M-16.000MHZ-B-2-T
16MHz ±20ppm Crystal 18pF 60 Ohms 2-SMD, Flat Lead; Manufacturer: Abracon; Alternate Part Number-1: NA; Manufacturer Part Number: ABLS7M-16.000MHZ-B-2-T; Case/Package: SMD; Supplier-1: ARROW; Supplier Part Number-1: ABLS7M-16.000MHZ-B-2-T
footprint XTAL_314_240X47_SMD
pins: 1, 2